# Altium integrated library INDUCTOR 12uH ASPI-8040S-510M-T.IntLib: 1 symbol
Pins are listed as number, name and electrical type; pins without a type are passive.

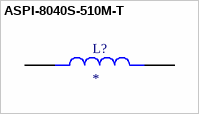
[diagram p0: symbol ASPI-8040S-510M-T]

## ASPI-8040S-510M-T
designator L?
ASPI Series 8040 51 uH Â±20% 1.5 A 142 mOhm SMT Shielded Wirewound Inductor; MF: Abracon LLC; MP: ASPI-8040S-510M-T; Purchase-URL: https://pricing.snapeda.com/search/part/ASPI-8040S-510M-T/?ref=eda; Value: *; SnapEDA_Link: https://www.snapeda.com/parts/ASPI-8040S-510M-T/Abracon+LLC/view-part/?ref=snap; Package: Nonstandard Abracon LLC; Check_prices: https://www.snapeda.com/parts/ASPI-8040S-510M-T/Abracon+LLC/view-part/?ref=eda; Availability: In Stock; Price: None
footprint IND_ASPI-8040S-510M-T
pins: 1, 2